# Altium footprint library SparkFun-Batteries.PCBLIB: 17 footprints (part 2 of 2)
Each footprint in its own frame and in the unit in brackets; x right, y up, seen from the top. Pads: shape width x height; smd on the part's side, far side on the other; paste and mask are expansions set on the pad; w line width, h text height; cw(c..) or ccw(c..) is an arc to the next point about the centre after c.
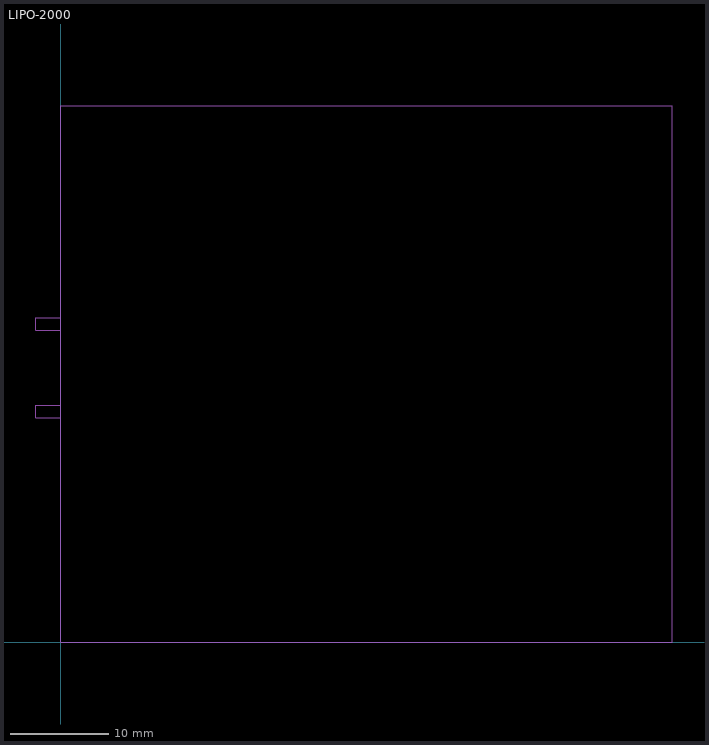
[diagram p1: the footprint, top view; thin cyan lines are the x and y axes]

## LIPO-2000 [mil]
Mechanical 16:
  lines w5: 0,900 -100,900 -100,950 0,950 ; 0,900 0,950 ; 0,900 0,0 2450,0 2450,2150 0,2150 0,1300 ; 0,950 0,1250 ; 0,1250 -100,1250 -100,1300 0,1300 ; 0,1250 0,1300